# Altium footprint library PCB - LEADLESS - LFPAK - NEXPERIA LFPAK33 SOT1210.PCBLIB: 1 footprints
Each footprint in its own frame and in the unit in brackets; x right, y up, seen from the top. Pads: shape width x height; smd on the part's side, far side on the other; paste and mask are expansions set on the pad; w line width, h text height; cw(c..) or ccw(c..) is an arc to the next point about the centre after c.
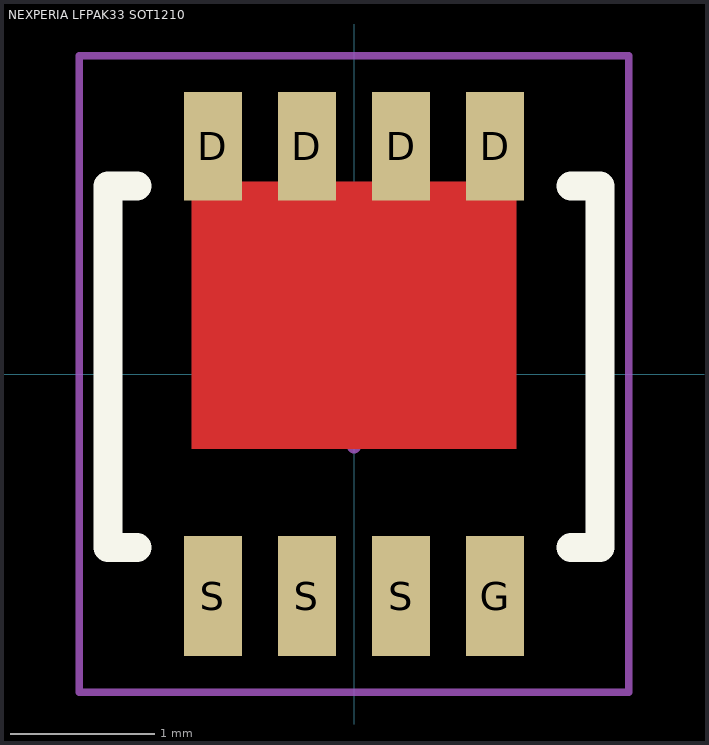
[diagram p0: the footprint, top view; thin cyan lines are the x and y axes]

## NEXPERIA LFPAK33 SOT1210 [mm]
height 0.9
pads (8):
  rect 0.4x0.75 smd: D(-0.975,1.575) D(-0.325,1.575) D(0.325,1.575) D(0.975,1.575)
  rect 0.4x0.83 smd: G(0.975,-1.535) S(-0.975,-1.535) S(-0.325,-1.535) S(0.325,-1.535)
Top Layer:
  rectangle: -1.125,-0.52 1.125,1.33
Top Overlay:
  lines w0.2: -1.5,-1.2 -1.7,-1.2 -1.7,1.3 -1.5,1.3 ; 1.5,-1.2 1.7,-1.2 1.7,1.3 1.5,1.3
Top Paste:
  region: 0.944,0.39 0.944,0.9 0.309,0.9 0.309,0.39
  region: -0.309,0.39 -0.309,0.9 -0.944,0.9 -0.944,0.39
  region: 0.944,-0.47 0.944,0.04 0.309,0.04 0.309,-0.47
  region: -0.309,-0.47 -0.309,0.04 -0.944,0.04 -0.944,-0.47
Mechanical 15:
  lines w0.05: -1.9,-2.2 1.9,-2.2 1.9,2.2 -1.9,2.2 -1.9,-2.2
  lines w0.1: -0.5,0 0.5,0 ; 0,-0.5 0,0.5
3D body "Nexperia LFPAK33 SOT1210.step": height 0.9, standoff 0, extent -1.697,-1.753 1.697,1.647